# Altium footprint library MEM2061-01-188-00-A.PcbLib: 1 footprints
Each footprint in its own frame and in the unit in brackets; x right, y up, seen from the top. Pads: shape width x height; smd on the part's side, far side on the other; paste and mask are expansions set on the pad; w line width, h text height; cw(c..) or ccw(c..) is an arc to the next point about the centre after c.
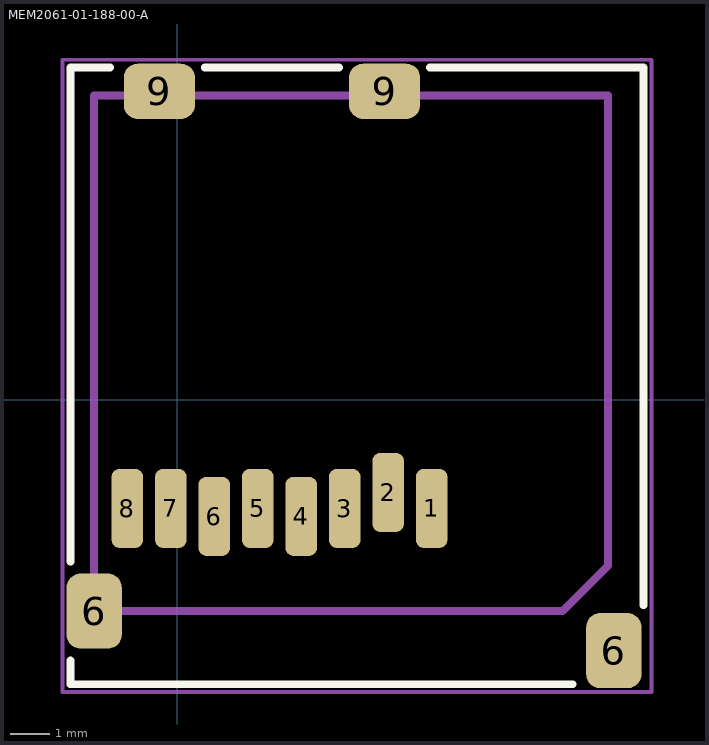
[diagram p0: the footprint, top view; thin cyan lines are the x and y axes]

## MEM2061-01-188-00-A [mm]
pads (12):
  rrect50% 0.8x2 smd mask+0: 1(6.44,-2.75) 2(5.34,-2.347) 3(4.24,-2.75) 4(3.14,-2.95) 5(2.04,-2.75) 6(0.94,-2.95) 7(-0.16,-2.75) 8(-1.26,-2.75)
  rrect50% 1.4x1.9 smd mask+0: 6(-2.1,-5.35) 6(11.05,-6.35)
  rrect50% 1.8x1.4 smd mask+0: 9(-0.45,7.8) 9(5.25,7.8)
Top Overlay:
  lines w0.2: -2.7,-6.6 -2.7,-7.2 10,-7.2 ; -2.7,-4.1 -2.7,8.4 -1.7,8.4 ; 0.7,8.4 4.1,8.4 ; 6.4,8.4 11.8,8.4 11.8,-5.2
Mechanical 3:
  lines w0.2: -2.1,-5.35 9.75,-5.35 10.9,-4.2 10.9,7.7 -2.1,7.7 -2.1,-5.35
Mechanical 7:
  lines w0.1: -2.9,-7.4 -2.9,8.6 12,8.6 12,-7.4 8.2,-7.4 -2.9,-7.4
Mechanical 9:
  text "'.Designator'" at -0.973,2.375 h1.02
3D body "MEM2061-01-188-00-A.stp": height 1.91, standoff -0.04, extent -2.6,-6.98 11.6,8.47
3D body: height 1.95, standoff 0, extent -2.9,-7.4 12,8.6